# Altium footprint library DIODE.PcbLib: 1 footprints
Each footprint in its own frame and in the unit in brackets; x right, y up, seen from the top. Pads: shape width x height; smd on the part's side, far side on the other; paste and mask are expansions set on the pad; w line width, h text height; cw(c..) or ccw(c..) is an arc to the next point about the centre after c.
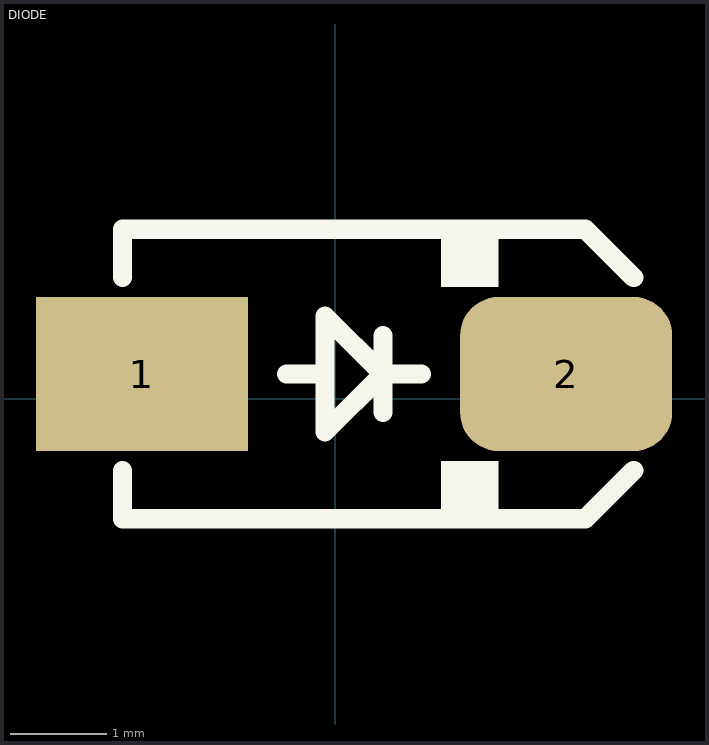
[diagram p0: the footprint, top view; thin cyan lines are the x and y axes]

## DIODE [mm]
pads (2):
  rect 2.2x1.6 smd paste-0.1: 1(-2.004,0.254)
  rrect50% 2.2x1.6 smd paste-0.1: 2(2.396,0.254)
Top Overlay:
  rectangle: 1.096,-1.246 1.696,-0.646
  rectangle: 1.096,1.154 1.696,1.754
  lines w0.2: -2.204,-0.746 -2.204,-1.246 2.596,-1.246 3.096,-0.746 ; -2.204,1.254 -2.204,1.754 2.596,1.754 3.096,1.254 ; -0.504,0.254 -0.104,0.254 ; 0.496,-0.146 0.496,0.654 ; 0.896,0.254 0.496,0.254 ; 0.496,0.254 -0.104,0.854 -0.104,-0.346 0.496,0.254
3D body "User Library-DIOM5528X26.step": height 2.6, standoff 0.03, extent -2.554,-1.146 2.946,1.654